# Altium schematic symbol library WR-FPC.SchLib: 258 symbols (part 6 of 6)
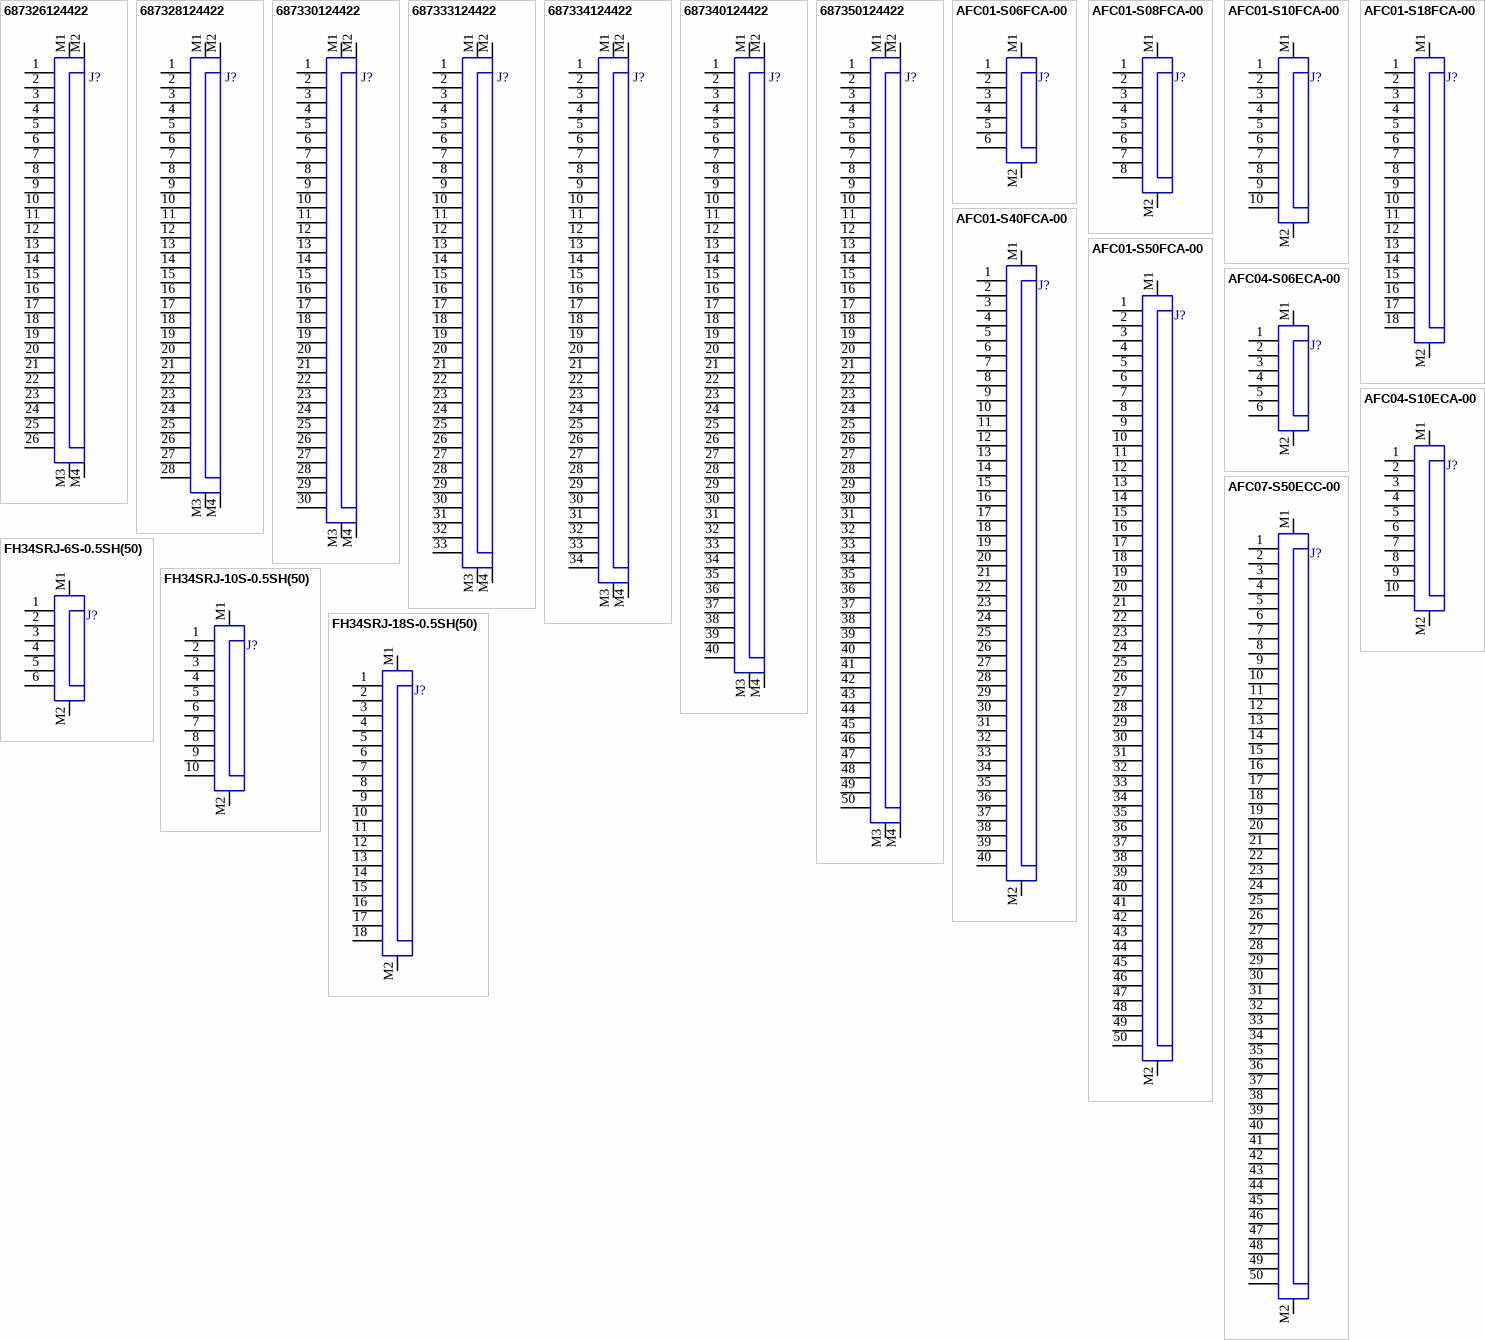
[diagram p12: symbols 687326124422 to FH34SRJ-18S-0.5SH(50)]

## 687340124422
designator J?  (value not drawn)
WR-FPC SMT ZIF Vertical, pitch 0.5mm, Vertical, 40pins; Manufacturer: Wurth Elektronik; Contact Resistance: 20mΩ; Rated Current: 0.5A; Working Voltage: 50VAC; Withstanding Voltage: 1000VAC; ComponentLink1Description: Datasheet; ComponentLink1URL: https://www.we-online.com/redexpert/spec/687340124422?ad; Manufacturer Part Number: 687340124422; Category: FPC Connectors; Mount: Surface Mount; Operating Temperature Max: 85°C; Operating Temperature Min: -25°C; Packaging: Tape and Reel; Length: 26.4mm; Width: 3.5mm; Height: 4.3mm; Number of Pins: 40; Orientation: Vertical; Pitch: 0.5mm; LCSC Part #: N/A; Supplier 1: Mouser; Supplier 1 Part Number: N/A; Supplier 1 URL: N/A; Supplier 2: Digi-Key; Supplier 2 Part Number: N/A; Supplier 2 URL: N/A; Supplier 3: thegioiic; Supplier 3 Part Number: N/A; Supplier 3 URL: N/A; Value: 687340124422
footprint 687340124422
pins: 1, 2, 3, 4, 5, 6, 7, 8, 9, 10, 11, 12, 13, 14, 15, 16, 17, 18, 19, 20, 21, 22, 23, 24, 25, 26, 27, 28, 29, 30, 31, 32, 33, 34, 35, 36, 37, 38, 39, 40, M1, M2, M3, M4

## 687350124422
designator J?  (value not drawn)
WR-FPC SMT ZIF Vertical, pitch 0.5mm, Vertical, 50pins; Manufacturer: Wurth Elektronik; Contact Resistance: 20mΩ; Rated Current: 0.5A; Working Voltage: 50VAC; Withstanding Voltage: 1000VAC; ComponentLink1Description: Datasheet; ComponentLink1URL: https://www.we-online.com/redexpert/spec/687350124422?ad; Manufacturer Part Number: 687350124422; Category: FPC Connectors; Mount: Surface Mount; Operating Temperature Max: 85°C; Operating Temperature Min: -25°C; Packaging: Tape and Reel; Length: 31.4mm; Width: 3.5mm; Height: 4.3mm; Number of Pins: 50; Orientation: Vertical; Pitch: 0.5mm; LCSC Part #: N/A; Supplier 1: Mouser; Supplier 1 Part Number: N/A; Supplier 1 URL: N/A; Supplier 2: Digi-Key; Supplier 2 Part Number: N/A; Supplier 2 URL: N/A; Supplier 3: thegioiic; Supplier 3 Part Number: N/A; Supplier 3 URL: N/A; Value: 687350124422
footprint 687350124422
pins: 1, 2, 3, 4, 5, 6, 7, 8, 9, 10, 11, 12, 13, 14, 15, 16, 17, 18, 19, 20, 21, 22, 23, 24, 25, 26, 27, 28, 29, 30, 31, 32, 33, 34, 35, 36, 37, 38, 39, 40, 41, 42, 43, 44, 45, 46, 47, 48, 49, 50, M1, M2, M3, M4

## AFC01-S06FCA-00
designator J?  (value not drawn)
Hinged Lid 6P 0.5mm Bottom Contact Surface Mount, Right Angle SMD,P=0.5mm,Surface Mount,Right Angle FFC, FPC (Flat Flexible) Connector Assemblies RoHS; Manufacturer: JUSHUO; Contact Resistance: 20mΩ; Rated Current: 0.5A; Working Voltage: 50VAC; Withstanding Voltage: 1000VAC; ComponentLink1Description: Datasheet; ComponentLink1URL: https://www.we-online.com/redexpert/spec/68710614522?ad; Manufacturer Part Number: AFC01-S06FCA-00; Category: FPC Connectors; Mount: Surface Mount; Operating Temperature Max: 85°C; Operating Temperature Min: -25°C; Packaging: Tape and Reel; Length: 9.4mm; Width: 5.1mm; Height: 2.1mm; Number of Pins: 6; Orientation: Horizontal; Pitch: 0.5mm; LCSC Part #: C262655; Supplier 1: Mouser; Supplier 1 Part Number: N/A; Supplier 1 URL: N/A; Supplier 2: Digi-Key; Supplier 2 Part Number: N/A; Supplier 2 URL: N/A; Supplier 3: thegioiic; Supplier 3 Part Number: N/A; Supplier 3 URL: N/A; Value: AFC01-S06FCA-00
footprint 68710614522
pins: 1, 2, 3, 4, 5, 6, M1, M2

## AFC01-S08FCA-00
designator J?  (value not drawn)
Hinged Lid 8P 0.5mm Bottom Contact Surface Mount, Right Angle SMD,P=0.5mm,Surface Mount,Right Angle FFC, FPC (Flat Flexible) Connector Assemblies RoHS; Manufacturer: JUSHUO; Contact Resistance: 20mΩ; Rated Current: 0.5A; Working Voltage: 50VAC; Withstanding Voltage: 1000VAC; ComponentLink1Description: Datasheet; ComponentLink1URL: https://www.lcsc.com/datasheet/C262657.pdf; Manufacturer Part Number: AFC01-S08FCA-00; Category: FPC Connectors; Mount: Surface Mount; Operating Temperature Max: 85°C; Operating Temperature Min: -25°C; Packaging: Tape and Reel; Length: 10.4mm; Width: 5.1mm; Height: 2.1mm; Number of Pins: 8; Orientation: Horizontal; Pitch: 0.5mm; LCSC Part #: C262657; Supplier 1: Mouser; Supplier 1 Part Number: N/A; Supplier 1 URL: N/A; Supplier 2: Digi-Key; Supplier 2 Part Number: N/A; Supplier 2 URL: N/A; Supplier 3: thegioiic; Supplier 3 Part Number: N/A; Supplier 3 URL: N/A; Value: AFC01-S08FCA-00
footprint 68710814522
pins: 1, 2, 3, 4, 5, 6, 7, 8, M1, M2

## AFC01-S10FCA-00
designator J?  (value not drawn)
Hinged Lid 10P 0.5mm Bottom Contact Surface Mount, Right Angle SMD,P=0.5mm,Surface Mount,Right Angle FFC, FPC (Flat Flexible) Connector Assemblies RoHS; Manufacturer: JUSHUO; Contact Resistance: 20mΩ; Rated Current: 0.5A; Working Voltage: 50VAC; Withstanding Voltage: 1000VAC; ComponentLink1Description: Datasheet; ComponentLink1URL: https://jlcpcb.com/api/file/downloadByFileSystemAccessId/8588893809387687936; Manufacturer Part Number: AFC01-S10FCA-00; Category: FPC Connectors; Mount: Surface Mount; Operating Temperature Max: 85°C; Operating Temperature Min: -25°C; Packaging: Tape and Reel; Length: 11.4mm; Width: 5.1mm; Height: 2.1mm; Number of Pins: 10; Orientation: Horizontal; Pitch: 0.5mm; LCSC Part #: C262659; Supplier 1: Mouser; Supplier 1 Part Number: N/A; Supplier 1 URL: N/A; Supplier 2: Digi-Key; Supplier 2 Part Number: N/A; Supplier 2 URL: N/A; Supplier 3: thegioiic; Supplier 3 Part Number: N/A; Supplier 3 URL: N/A; Value: AFC01-S10FCA-00
footprint 68711014522
pins: 1, 2, 3, 4, 5, 6, 7, 8, 9, 10, M1, M2

## AFC01-S18FCA-00
designator J?  (value not drawn)
Hinged Lid 18P 0.5mm Bottom Contact Surface Mount, Right Angle SMD,P=0.5mm,Surface Mount,Right Angle FFC, FPC (Flat Flexible) Connector Assemblies RoHS; Manufacturer: JUSHUO; Contact Resistance: 20mΩ; Rated Current: 0.5A; Working Voltage: 50VAC; Withstanding Voltage: 1000VAC; ComponentLink1Description: Datasheet; ComponentLink1URL: https://jlcpcb.com/api/file/downloadByFileSystemAccessId/8588942629257666560; Manufacturer Part Number: AFC01-S18FCA-00; Category: FPC Connectors; Mount: Surface Mount; Operating Temperature Max: 85°C; Operating Temperature Min: -25°C; Packaging: Tape and Reel; Length: 15.4mm; Width: 5.1mm; Height: 2.1mm; Number of Pins: 18; Orientation: Horizontal; Pitch: 0.5mm; LCSC Part #: C262666; Supplier 1: Mouser; Supplier 1 Part Number: N/A; Supplier 1 URL: N/A; Supplier 2: Digi-Key; Supplier 2 Part Number: N/A; Supplier 2 URL: N/A; Supplier 3: thegioiic; Supplier 3 Part Number: N/A; Supplier 3 URL: N/A; Value: AFC01-S18FCA-00
footprint 68711814522
pins: 1, 2, 3, 4, 5, 6, 7, 8, 9, 10, 11, 12, 13, 14, 15, 16, 17, 18, M1, M2

## AFC01-S40FCA-00
designator J?  (value not drawn)
Hinged Lid 40P 0.5mm Bottom Contact Surface Mount, Right Angle SMD,P=0.5mm,Surface Mount,Right Angle FFC, FPC (Flat Flexible) Connector Assemblies RoHS; Manufacturer: JUSHUO; Contact Resistance: 20mΩ; Rated Current: 0.5A; Working Voltage: 50VAC; Withstanding Voltage: 1000VAC; ComponentLink1Description: Datasheet; ComponentLink1URL: https://www.lcsc.com/datasheet/C262674.pdf; Manufacturer Part Number: AFC01-S40FCA-00; Category: FPC Connectors; Mount: Surface Mount; Operating Temperature Max: 85°C; Operating Temperature Min: -25°C; Packaging: Tape and Reel; Length: 26.4mm; Width: 5.1mm; Height: 2.1mm; Number of Pins: 40; Orientation: Horizontal; Pitch: 0.5mm; LCSC Part #: C262674; Supplier 1: Mouser; Supplier 1 Part Number: N/A; Supplier 1 URL: N/A; Supplier 2: Digi-Key; Supplier 2 Part Number: N/A; Supplier 2 URL: N/A; Supplier 3: thegioiic; Supplier 3 Part Number: N/A; Supplier 3 URL: N/A; Value: AFC01-S40FCA-00
footprint 68714014522
pins: 1, 2, 3, 4, 5, 6, 7, 8, 9, 10, 11, 12, 13, 14, 15, 16, 17, 18, 19, 20, 21, 22, 23, 24, 25, 26, 27, 28, 29, 30, 31, 32, 33, 34, 35, 36, 37, 38, 39, 40, M1, M2

## AFC01-S50FCA-00
designator J?  (value not drawn)
Hinged Lid 50P 0.5mm Bottom Contact Surface Mount, Right Angle SMD,P=0.5mm,Surface Mount,Right Angle FFC, FPC (Flat Flexible) Connector Assemblies RoHS; Manufacturer: JUSHUO; Contact Resistance: 20mΩ; Rated Current: 0.5A; Working Voltage: 50VAC; Withstanding Voltage: 1000VAC; ComponentLink1Description: Datasheet; ComponentLink1URL: https://www.lcsc.com/datasheet/C262676.pdf; Manufacturer Part Number: AFC01-S50FCA-00; Category: FPC Connectors; Mount: Surface Mount; Operating Temperature Max: 85°C; Operating Temperature Min: -25°C; Packaging: Tape and Reel; Length: 31.4mm; Width: 5.1mm; Height: 2.1mm; Number of Pins: 50; Orientation: Horizontal; Pitch: 0.5mm; LCSC Part #: C262676; Supplier 1: Mouser; Supplier 1 Part Number: N/A; Supplier 1 URL: N/A; Supplier 2: Digi-Key; Supplier 2 Part Number: N/A; Supplier 2 URL: N/A; Supplier 3: thegioiic; Supplier 3 Part Number: N/A; Supplier 3 URL: N/A; Value: AFC01-S50FCA-00
footprint 68715014522
pins: 1, 2, 3, 4, 5, 6, 7, 8, 9, 10, 11, 12, 13, 14, 15, 16, 17, 18, 19, 20, 21, 22, 23, 24, 25, 26, 27, 28, 29, 30, 31, 32, 33, 34, 35, 36, 37, 38, 39, 40, 41, 42, 43, 44, 45, 46, 47, 48, 49, 50, M1, M2

## AFC04-S06ECA-00
designator J?  (value not drawn)
Drawer Type -25℃~+85℃ 6P Contact,Top Horizontal attachment 0.5mm SMD,P=0.5mm,Surface Mount，Right Angle FFC, FPC (Flat Flexible) Connector Assemblies ROHS; Manufacturer: JUSHUO; Contact Resistance: 20mΩ; Rated Current: 0.5A; Working Voltage: 50VAC; Withstanding Voltage: 1000VAC; ComponentLink1Description: Datasheet; ComponentLink1URL: https://www.we-online.com/redexpert/spec/68710614022?ad; Manufacturer Part Number: AFC04-S06ECA-00; Category: FPC Connectors; Mount: Surface Mount; Operating Temperature Max: 85°C; Operating Temperature Min: -25°C; Packaging: Tape and Reel; Length: 9.4mm; Width: 5.1mm; Height: 2.1mm; Number of Pins: 6; Orientation: Horizontal; Pitch: 0.5mm; LCSC Part #: C883636; Supplier 1: Mouser; Supplier 1 Part Number: N/A; Supplier 1 URL: N/A; Supplier 2: Digi-Key; Supplier 2 Part Number: N/A; Supplier 2 URL: N/A; Supplier 3: thegioiic; Supplier 3 Part Number: N/A; Supplier 3 URL: N/A; Value: AFC04-S06ECA-00
footprint 68710614022
pins: 1, 2, 3, 4, 5, 6, M1, M2

## AFC04-S10ECA-00
designator J?  (value not drawn)
Drawer Type -25℃~+85℃ 10P Contact,Top Horizontal attachment 0.5mm SMD,P=0.5mm,Surface Mount，Right Angle FFC, FPC (Flat Flexible) Connector Assemblies ROHS; Manufacturer: JUSHUO; Contact Resistance: 20mΩ; Rated Current: 0.5A; Working Voltage: 50VAC; Withstanding Voltage: 1000VAC; ComponentLink1Description: Datasheet; ComponentLink1URL: https://jlcpcb.com/api/file/downloadByFileSystemAccessId/8588894246837628929; Manufacturer Part Number: AFC04-S10ECA-00; Category: FPC Connectors; Mount: Surface Mount; Operating Temperature Max: 85°C; Operating Temperature Min: -25°C; Packaging: Tape and Reel; Length: 11.4mm; Width: 5.1mm; Height: 2.1mm; Number of Pins: 10; Orientation: Horizontal; Pitch: 0.5mm; LCSC Part #: C883638; Supplier 1: Mouser; Supplier 1 Part Number: N/A; Supplier 1 URL: N/A; Supplier 2: Digi-Key; Supplier 2 Part Number: N/A; Supplier 2 URL: N/A; Supplier 3: thegioiic; Supplier 3 Part Number: N/A; Supplier 3 URL: N/A; Value: AFC04-S10ECA-00
footprint 68711014022
pins: 1, 2, 3, 4, 5, 6, 7, 8, 9, 10, M1, M2

## AFC07-S50ECC-00
designator J?  (value not drawn)
FFC/FPC Connector 50 Position 0.5mm Pitch Top Contact Surface Mount, Right Angle; Manufacturer: JUSHUO; Contact Resistance: 20mΩ; Rated Current: 0.5A; Working Voltage: 50VAC; Withstanding Voltage: 1000VAC; ComponentLink1Description: Datasheet; ComponentLink1URL: https://www.lcsc.com/datasheet/C11098.pdf; Manufacturer Part Number: AFC07-S50ECC-00; Category: FPC Connectors; Mount: Surface Mount; Operating Temperature Max: 85°C; Operating Temperature Min: -25°C; Packaging: Tape and Reel; Length: 31.4mm; Width: 5.1mm; Height: 2.1mm; Number of Pins: 50; Orientation: Horizontal; Pitch: 0.5mm; LCSC Part #: C11098; Supplier 1: Mouser; Supplier 1 Part Number: N/A; Supplier 1 URL: N/A; Supplier 2: Digi-Key; Supplier 2 Part Number: N/A; Supplier 2 URL: N/A; Supplier 3: thegioiic; Supplier 3 Part Number: N/A; Supplier 3 URL: N/A; Value: AFC07-S50ECC-00
footprint 68715014022
pins: 1, 2, 3, 4, 5, 6, 7, 8, 9, 10, 11, 12, 13, 14, 15, 16, 17, 18, 19, 20, 21, 22, 23, 24, 25, 26, 27, 28, 29, 30, 31, 32, 33, 34, 35, 36, 37, 38, 39, 40, 41, 42, 43, 44, 45, 46, 47, 48, 49, 50, M1, M2

## FH34SRJ-6S-0.5SH(50)
designator J?  (value not drawn)
-55℃~+105℃ 6P Dual-sided contacts / top and bottom connection Horizontal attachment 0.5mm SMD,P=0.5mm,Surface Mount，Right Angle FFC, FPC (Flat Flexible) Connector Assemblies ROHS; Manufacturer: HRS(Hirose); Contact Resistance: 30mΩ; Rated Current: 0.5A; Working Voltage: 50VAC; Withstanding Voltage: 1000VAC; ComponentLink1Description: Datasheet; ComponentLink1URL: https://www.lcsc.com/datasheet/lcsc_datasheet_2410121934_HRS-Hirose-FH34SRJ-10S-0-5SH-50_C324723.pdf; Manufacturer Part Number: FH34SRJ-6S-0.5SH(50); Category: FPC Connectors; Mount: Surface Mount; Operating Temperature Max: 85°C; Operating Temperature Min: -55°C; Packaging: Tape and Reel; Length: 5mm; Width: 3.7mm; Height: 0.96mm; Number of Pins: 6; Orientation: Horizontal; Pitch: 0.5mm; LCSC Part #: C224194; Supplier 1: Mouser; Supplier 1 Part Number: N/A; Supplier 1 URL: N/A; Supplier 2: Digi-Key; Supplier 2 Part Number: N/A; Supplier 2 URL: N/A; Supplier 3: thegioiic; Supplier 3 Part Number: N/A; Supplier 3 URL: N/A; Value: FH34SRJ-6S-0.5SH(50)
footprint 687106182122
pins: 1, 2, 3, 4, 5, 6, M1, M2

## FH34SRJ-10S-0.5SH(50)
designator J?  (value not drawn)
-55℃~+105℃ 10P Dual-sided contacts / top and bottom connection Horizontal attachment 0.5mm SMD,P=0.5mm,Surface Mount，Right Angle FFC, FPC (Flat Flexible) Connector Assemblies ROHS; Manufacturer: HRS(Hirose); Contact Resistance: 30mΩ; Rated Current: 0.5A; Working Voltage: 50VAC; Withstanding Voltage: 1000VAC; ComponentLink1Description: Datasheet; ComponentLink1URL: https://www.lcsc.com/datasheet/lcsc_datasheet_2410121934_HRS-Hirose-FH34SRJ-10S-0-5SH-50_C324723.pdf; Manufacturer Part Number: FH34SRJ-10S-0.5SH(50); Category: FPC Connectors; Mount: Surface Mount; Operating Temperature Max: 85°C; Operating Temperature Min: -55°C; Packaging: Tape and Reel; Length: 7mm; Width: 3.7mm; Height: 0.96mm; Number of Pins: 10; Orientation: Horizontal; Pitch: 0.5mm; LCSC Part #: C324723; Supplier 1: Mouser; Supplier 1 Part Number: N/A; Supplier 1 URL: N/A; Supplier 2: Digi-Key; Supplier 2 Part Number: N/A; Supplier 2 URL: N/A; Supplier 3: thegioiic; Supplier 3 Part Number: N/A; Supplier 3 URL: N/A; Value: FH34SRJ-10S-0.5SH(50)
footprint 687110182122
pins: 1, 2, 3, 4, 5, 6, 7, 8, 9, 10, M1, M2

## FH34SRJ-18S-0.5SH(50)
designator J?  (value not drawn)
-55℃~+105℃ 18P Dual-sided contacts / top and bottom connection Horizontal attachment 0.5mm SMD,P=0.5mm,Surface Mount，Right Angle  FFC, FPC (Flat Flexible) Connector Assemblies ROHS; Manufacturer: HRS(Hirose); Contact Resistance: 30mΩ; Rated Current: 0.5A; Working Voltage: 50VAC; Withstanding Voltage: 1000VAC; ComponentLink1Description: Datasheet; ComponentLink1URL: https://www.lcsc.com/datasheet/lcsc_datasheet_2410121934_HRS-Hirose-FH34SRJ-10S-0-5SH-50_C324723.pdf; Manufacturer Part Number: FH34SRJ-18S-0.5SH(50); Category: FPC Connectors; Mount: Surface Mount; Operating Temperature Max: 85°C; Operating Temperature Min: -55°C; Packaging: Tape and Reel; Length: 11mm; Width: 3.7mm; Height: 0.96mm; Number of Pins: 18; Orientation: Horizontal; Pitch: 0.5mm; LCSC Part #: C3169386; Supplier 1: Mouser; Supplier 1 Part Number: N/A; Supplier 1 URL: N/A; Supplier 2: Digi-Key; Supplier 2 Part Number: N/A; Supplier 2 URL: N/A; Supplier 3: thegioiic; Supplier 3 Part Number: N/A; Supplier 3 URL: N/A; Value: FH34SRJ-18S-0.5SH(50)
footprint 687118182122
pins: 1, 2, 3, 4, 5, 6, 7, 8, 9, 10, 11, 12, 13, 14, 15, 16, 17, 18, M1, M2